# EAGLE library part CAT9532WI (library unicorn_v2)
Encoder to Counter Interface Source: http://www.usdigital.com/products/ls7183-ls7184/ls7183 ls7184 Data Sheet.pdf
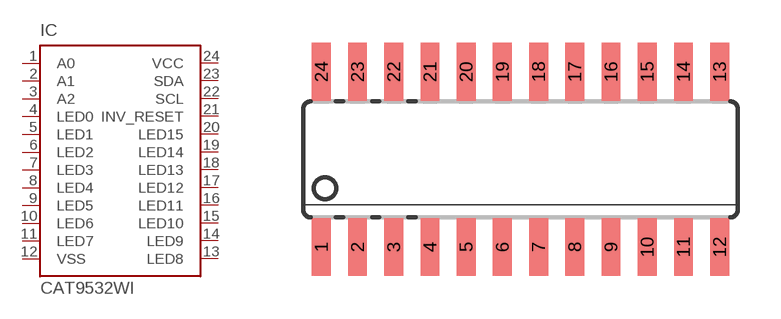
[diagram p0: symbol with the pads of SOIC08; footprint SOIC08]

Designator prefix IC

## CAT9532WI-SOIC  [SOIC08]
1  A0  in
2  A1  in
3  A2  in
4  LED0  in
5  LED1  in
6  LED2  in
7  LED3  in
8  LED4  in
9  LED5  in
10  LED6  in
11  LED7  in
12  VSS  in
13  LED8  in
14  LED9  in
15  LED10  in
16  LED11  in
17  LED12  in
18  LED13  in
19  LED14  in
20  LED15  in
21  INV_RESET  in
22  SCL  in
23  SDA  in
24  VCC  in

## Footprint SOIC08 (pad centres in mm)
Small Outline Package
smd 0.66 x 2.032: 1 -1.905,-3.073; 2 -0.635,-3.073; 3 0.635,-3.073; 4 1.905,-3.073; 5 3.175,-3.073; 6 4.445,-3.073; 7 5.715,-3.073; 8 6.985,-3.073; 9 8.255,-3.073; 10 9.525,-3.073; 11 10.795,-3.073; 12 12.065,-3.073; 13 12.065,3.073; 14 10.795,3.073; 15 9.525,3.073; 16 8.255,3.073; 17 6.985,3.073; 18 5.715,3.073; 19 4.445,3.073; 20 3.175,3.073; 21 1.905,3.073; 22 0.635,3.073; 23 -0.635,3.073; 24 -1.905,3.073